# Altium integrated library TE Power Connectors, Contacts, and Terminals.IntLib: 3 symbols
Pins are listed as number, name and electrical type; pins without a type are passive.

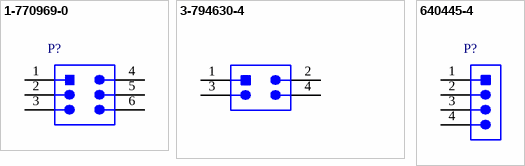
[diagram p0: symbols 1-770969-0 to 640445-4]

## 1-770969-0
designator P?
Male Header, Pitch 4.14 mm, 2 x 3 Position, Height 11.86 mm, Tail Length 3.68 mm, -55 to 105 degC, RoHS; Manufacturer Series: 770969; Empty Shell: NO; Number of Contacts: 6; Product Length: 14mm; Number of Ports: 1; Gender: HDR; UL Flammability Code: 94V-0; Maximum Voltage Rating: 600VAC; Maximum Current Rating: 9.5/ContactA; Additional Feature: MATE-N-LOK; Body Orientation: Right Angle; Pitch: 4.14mm; Option: GENERAL PURPOSE; Mating Information: 172168-1; DatasheetVersion: Rev. H; PackageReference: THD; PackageDescription: Male Header, Pitch 4.14 mm, 2 x 3 Position, Height 11.86 mm, Tail Length 3.68 mm; Supplier 1: Digi-Key; Supplier Part Number 1: A32475-ND; Termination Method: Solder; DIN Conformance: NO; Mixed Contacts: NO; Shell Material: POLYAMIDE; Zero Insertion Force: NO; Total Number of Contacts: 6; Contact Finish - Termination: MATTE TIN OVER NICKEL; Number of Terminals: 6; Filter Feature: NO; IEC Conformance: NO; JESD-97 Code: e3; Mounting: Through Hole; Termination Type: SOLDER; Family: 770969; Contact Finish - Mating: MATTE TIN; Housing Material: Nylon; Contact Plating: Tin Over Nickel; Mounting Type: BOARD; Product Height: 11.86mm; Type: Power; Contact Material: Brass; MIL Conformance: NO; Contact Gender: MALE; Product Type: Connector Power; ComponentLink1Description: Manufacturer URL; ComponentLink1URL: http://www.te.com; ComponentLink2Description: Datasheet; ComponentLink2URL: http://www.te.com/commerce/DocumentDelivery/DDEController?Action=srchrtrv&DocNm=770969&DocType=Customer+Drawing&DocLang=English
footprint TECO-1-770969-0_V (THD, 6-Leads, Body 14x12.7mm, Pitch 4.14mm)
pins: 1, 2, 3, 4, 5, 6

## 3-794630-4
designator P?
Male Header, Pitch 3 mm, 2 x 2 Position, Height 9.24 mm, Tail Length 3.18 mm, -40 to 105 degC, RoHS, Tray; Approval Bodies: CSA / UL; Connector Type: Wire to Board; Voltage Rating V AC: 250V; Contact Termination: Through Hole Vertical; Current Rating: 5A; Insulation Resistance: 1000Mohm; Pitch Spacing: 3mm; Withstand Voltage: 1500V; Contact Resistance: 20mohm; No. of Rows: 2; No. of Poles: 4; DatasheetVersion: Rev. F; PackageReference: THD; PackageDescription: Male Header, Pitch 3 mm, 2 x 2 Position, Height 9.24 mm, Tail Length 3.18 mm; Supplier 1: Digi-Key; Supplier Part Number 1: A33220-ND; Termination Method: Solder; Lead Spacing: 3mm; Gender: Header; Operating Temperature Min: -40°C; Material: Nylon; Contact Plating: Tin; No. of Contacts: 4; Contact Material: Brass; Series: Micro Mate-N-Lok; No. of Ways: 4; Flammability Rating: UL94V-0; Operating Temperature Max: +105°C; Colour: Black; ComponentLink1Description: Manufacturer URL; ComponentLink1URL: http://www.te.com; ComponentLink2Description: Datasheet; ComponentLink2URL: http://www.te.com/commerce/DocumentDelivery/DDEController?Action=showdoc&DocId=Customer+Drawing%7F794630%7FF%7Fpdf%7FEnglish%7FENG_CD_794630_F.pdf%7F3-794630-4
footprint TECO-3-794630-4 (Connector, 4-Leads, Body 10x8.67mm, Pitch 3mm)
pins: 1, 2, 3, 4

## 640445-4
designator P?
Male Header, Pitch 3.962 mm, 1 x 4 Postion, Height 13.716 mm, Tail Length 3.175 mm, -55 to 105 degC, RoHS; Mounting Hole Size: 0.07 / "; Number of Contacts: 4; Primary Type: Interconnect System; Temperature, Operating: -55 to +105 / °C; Wire, AWG: 26-18; Pin Spacing: 0.156 / "; Color, Housing: White; Mount Angle: Vertical; Voltage, Rating: 600 / V; Material, Housing: Thermoplastic Polyester; Material, Contact: Copper Alloy; Special Features: IDC, Pinstrip; Brand/Series: MTA-156 Series; Contact Centerline Spacing: 0.156 / in.; Agency Approvals: CSA, UL; Angle: Straight; Standards: UL 94V-0 Housing Flammability Rating, RoHS Compliant, ELV Compliant; Current, Rating: 7 / A; DatasheetVersion: Rev. AD5; PackageReference: THD; PackageDescription: Male Header, Pitch 3.962 mm, 1 x 4 Postion, Height 13.716 mm, Tail Length 3.175 mm; Supplier 1: Digi-Key; Supplier Part Number 1: A1972-ND; Length, Terminal Post: 0.125 / in.; Diameter, Insulation: 0.095" (Single Wire), 0.07" (Mass Termination Wires); Color: White; Connector Type: Male; Application: For wire-to-board; Length, Pin: 0.125 / "; Termination: Solder; Number of Positions: 4; Length, Overall: 0.624 / "; Contact Plating: Tin; Mounting Type: PCB Mount; Type: PCB Plug; Flammability Rating: UL94V-0; Number of Rows: 1; ComponentLink1Description: Manufacturer URL; ComponentLink1URL: http://www.te.com; ComponentLink2Description: Datasheet; ComponentLink2URL: http://www.te.com/commerce/DocumentDelivery/DDEController?Action=showdoc&DocId=Customer+Drawing%7F640445%7FAD5%7Fpdf%7FEnglish%7FENG_CD_640445_AD5.pdf%7F640445-4
footprint TECO-640445-4_V (CONN, 4-Leads, Body 7.62x15.85mm, Pitch 3.962mm)
pins: 1, 2, 3, 4